# Altium footprint library RJ-11 Micro.PcbLib: 1 footprints
Each footprint in its own frame and in the unit in brackets; x right, y up, seen from the top. Pads: shape width x height; smd on the part's side, far side on the other; paste and mask are expansions set on the pad; w line width, h text height; cw(c..) or ccw(c..) is an arc to the next point about the centre after c.
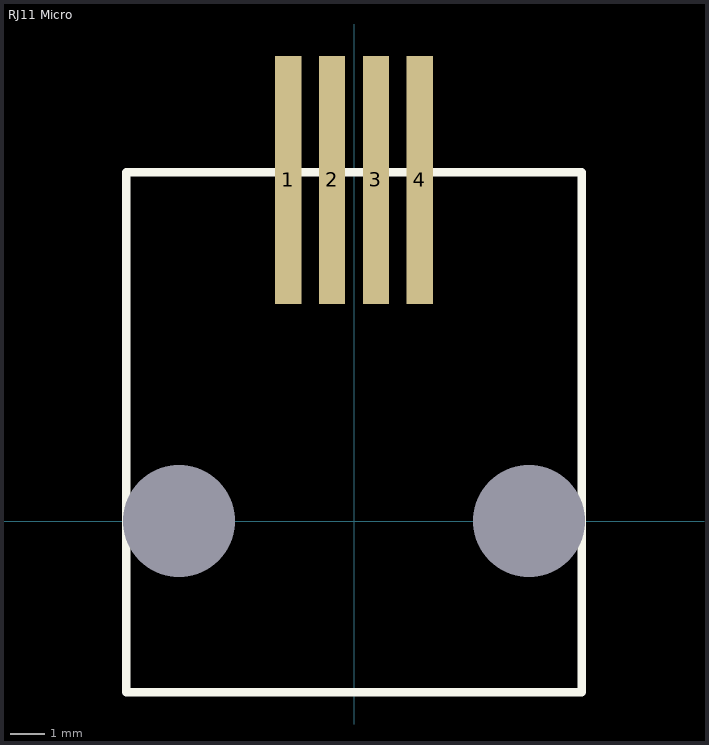
[diagram p0: the footprint, top view; thin cyan lines are the x and y axes]

## RJ11 Micro [mm]
pads (6):
  rect 0.76x7.2 smd: 1(-1.905,9.9) 2(-0.635,9.9) 3(0.635,9.9) 4(1.905,9.9)
  round 0 hole 3.25: ""(-5.08,0) ""(5.08,0)
Top Overlay:
  lines w0.254: -6.605,-4.96 -6.605,10.12 6.605,10.12 6.605,-4.96 -6.605,-4.96
3D body: height 12.7, standoff 0, extent -6.56,6.2 6.6,10.09
3D body: height 2, standoff 0, extent -5.4,-3.4 5.5,6.22
3D body: height 15.7, standoff 0, extent -6.57,-4.97 6.6,6.22
3D body: height 0, standoff -3, extent 3.463,-1.614 6.7,1.63
3D body: height 0, standoff -3, extent -6.697,-1.622 -3.46,1.622
3D body: height -12.6, standoff -27.4, extent -3.75,-4.648 3.75,5.808